# EAGLE library part STECKER_SIEMENS_88-PIN_1703053 (library k-data Mechanik)
Siemens Stecker 88 pol. für BMW Motorsteuergerät (MS41.0)
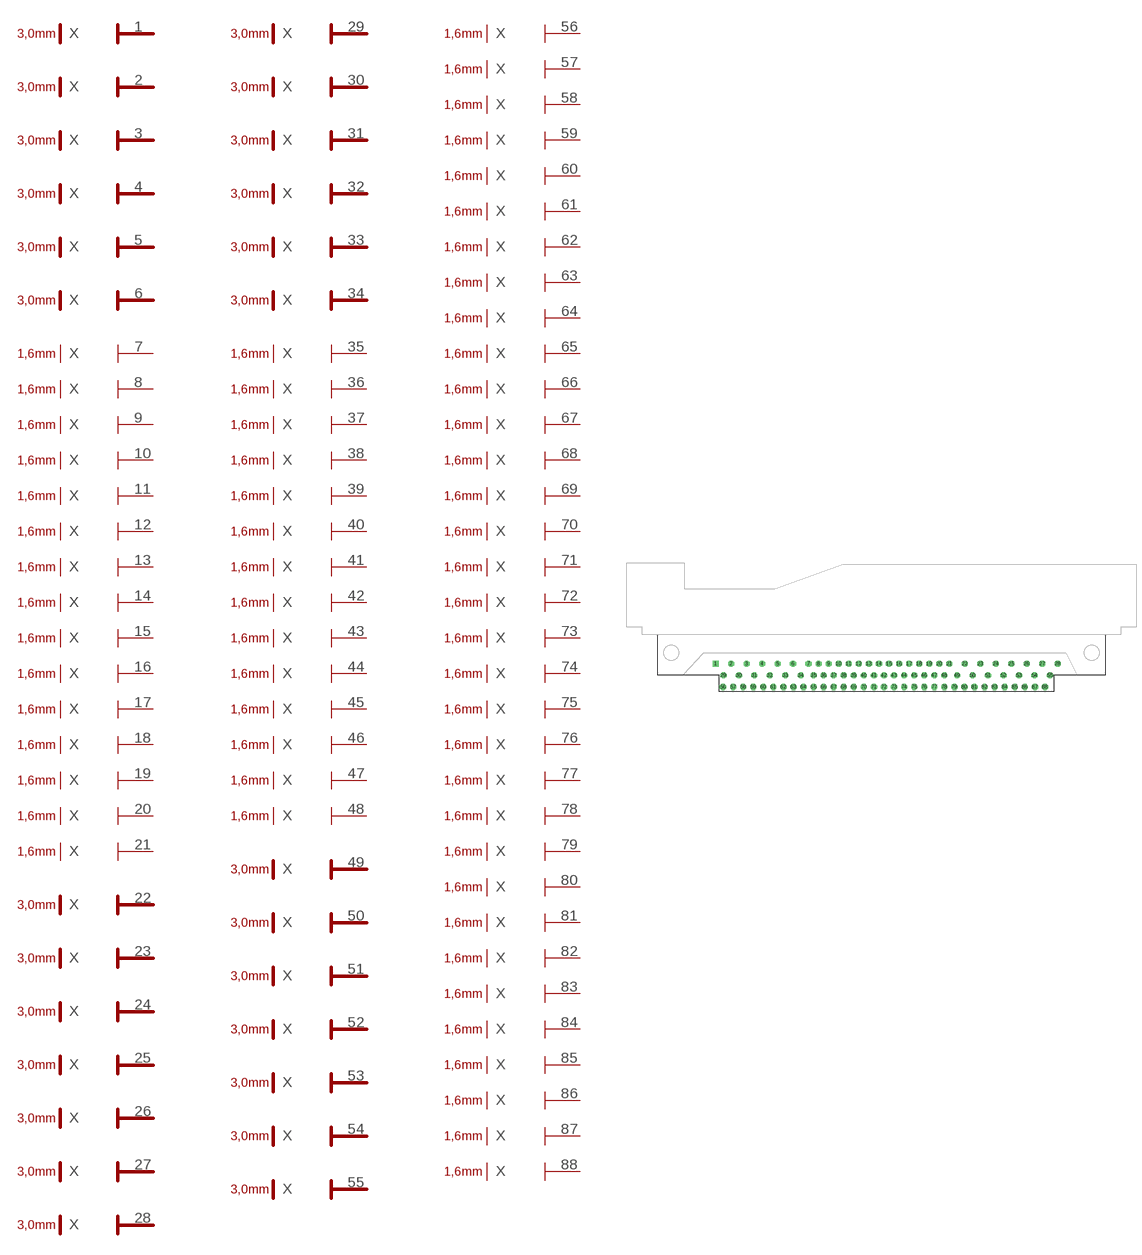
[diagram p0: symbol with the pads of STECKER_SIEMENS_88-PIN_1703053; footprint STECKER_SIEMENS_88-PIN_1703053]

Designator prefix X; gates -1=CONNECTOR-3,0MM -2=CONNECTOR-3,0MM -3=CONNECTOR-3,0MM -4=CONNECTOR-3,0MM -5=CONNECTOR-3,0MM -6=CONNECTOR-3,0MM -7=CONNECTOR-1,6MM -8=CONNECTOR-1,6MM -9=CONNECTOR-1,6MM -10=CONNECTOR-1,6MM -11=CONNECTOR-1,6MM -12=CONNECTOR-1,6MM -13=CONNECTOR-1,6MM -14=CONNECTOR-1,6MM -15=CONNECTOR-1,6MM -16=CONNECTOR-1,6MM -17=CONNECTOR-1,6MM -18=CONNECTOR-1,6MM -19=CONNECTOR-1,6MM -20=CONNECTOR-1,6MM -21=CONNECTOR-1,6MM -22=CONNECTOR-3,0MM -23=CONNECTOR-3,0MM -24=CONNECTOR-3,0MM -25=CONNECTOR-3,0MM -26=CONNECTOR-3,0MM -27=CONNECTOR-3,0MM -28=CONNECTOR-3,0MM -29=CONNECTOR-3,0MM -30=CONNECTOR-3,0MM -31=CONNECTOR-3,0MM -32=CONNECTOR-3,0MM -33=CONNECTOR-3,0MM -34=CONNECTOR-3,0MM -35=CONNECTOR-1,6MM -36=CONNECTOR-1,6MM -37=CONNECTOR-1,6MM -38=CONNECTOR-1,6MM -39=CONNECTOR-1,6MM -40=CONNECTOR-1,6MM -41=CONNECTOR-1,6MM -42=CONNECTOR-1,6MM -43=CONNECTOR-1,6MM -44=CONNECTOR-1,6MM -45=CONNECTOR-1,6MM -46=CONNECTOR-1,6MM -47=CONNECTOR-1,6MM -48=CONNECTOR-1,6MM -49=CONNECTOR-3,0MM -50=CONNECTOR-3,0MM -51=CONNECTOR-3,0MM -52=CONNECTOR-3,0MM -53=CONNECTOR-3,0MM -54=CONNECTOR-3,0MM -55=CONNECTOR-3,0MM -56=CONNECTOR-1,6MM -57=CONNECTOR-1,6MM -58=CONNECTOR-1,6MM -59=CONNECTOR-1,6MM -60=CONNECTOR-1,6MM -61=CONNECTOR-1,6MM -62=CONNECTOR-1,6MM -63=CONNECTOR-1,6MM -64=CONNECTOR-1,6MM -65=CONNECTOR-1,6MM -66=CONNECTOR-1,6MM -67=CONNECTOR-1,6MM -68=CONNECTOR-1,6MM -69=CONNECTOR-1,6MM -70=CONNECTOR-1,6MM -71=CONNECTOR-1,6MM -72=CONNECTOR-1,6MM -73=CONNECTOR-1,6MM -74=CONNECTOR-1,6MM -75=CONNECTOR-1,6MM -76=CONNECTOR-1,6MM -77=CONNECTOR-1,6MM -78=CONNECTOR-1,6MM -79=CONNECTOR-1,6MM -80=CONNECTOR-1,6MM -81=CONNECTOR-1,6MM -82=CONNECTOR-1,6MM -83=CONNECTOR-1,6MM -84=CONNECTOR-1,6MM -85=CONNECTOR-1,6MM -86=CONNECTOR-1,6MM -87=CONNECTOR-1,6MM -88=CONNECTOR-1,6MM

## STECKER_SIEMENS_88-PIN_1703053  [STECKER_SIEMENS_88-PIN_1703053]
1  -1:1
2  -2:1
3  -3:1
4  -4:1
5  -5:1
6  -6:1
7  -7:1
8  -8:1
9  -9:1
10  -10:1
11  -11:1
12  -12:1
13  -13:1
14  -14:1
15  -15:1
16  -16:1
17  -17:1
18  -18:1
19  -19:1
20  -20:1
21  -21:1
22  -22:1
23  -23:1
24  -24:1
25  -25:1
26  -26:1
27  -27:1
28  -28:1
29  -29:1
30  -30:1
31  -31:1
32  -32:1
33  -33:1
34  -34:1
35  -35:1
36  -36:1
37  -37:1
38  -38:1
39  -39:1
40  -40:1
41  -41:1
42  -42:1
43  -43:1
44  -44:1
45  -45:1
46  -46:1
47  -47:1
48  -48:1
49  -49:1
50  -50:1
51  -51:1
52  -52:1
53  -53:1
54  -54:1
55  -55:1
56  -56:1
57  -57:1
58  -58:1
59  -59:1
60  -60:1
61  -61:1
62  -62:1
63  -63:1
64  -64:1
65  -65:1
66  -66:1
67  -67:1
68  -68:1
69  -69:1
70  -70:1
71  -71:1
72  -72:1
73  -73:1
74  -74:1
75  -75:1
76  -76:1
77  -77:1
78  -78:1
79  -79:1
80  -80:1
81  -81:1
82  -82:1
83  -83:1
84  -84:1
85  -85:1
86  -86:1
87  -87:1
88  -88:1

## Footprint STECKER_SIEMENS_88-PIN_1703053 (pad centres in mm)
Siemens Stecker 88 pol. (MS41.0)
drill 1.3 pad 2 square: 1 -53.562,-9.5
drill 1.3 pad 2 octagon: 2 -48.562,-9.5; 3 -43.562,-9.5; 4 -38.562,-9.5; 5 -33.562,-9.5; 6 -28.562,-9.5; 7 -23.562,-9.5; 8 -20.312,-9.5; 9 -17.062,-9.5; 10 -13.812,-9.5; 11 -10.562,-9.5; 12 -7.312,-9.5; 13 -4.062,-9.5; 14 -0.812,-9.5; 15 2.438,-9.5; 16 5.688,-9.5; 17 8.938,-9.5; 18 12.188,-9.5; 19 15.438,-9.5; 20 18.688,-9.5; 21 21.938,-9.5; 22 26.938,-9.5; 23 31.938,-9.5; 24 36.938,-9.5; 25 41.938,-9.5; 26 46.938,-9.5; 27 51.938,-9.5; 28 56.938,-9.5; 29 -51.062,-13.25; 30 -46.062,-13.25; 31 -41.062,-13.25; 32 -36.062,-13.25; 33 -31.062,-13.25; 34 -26.062,-13.25; 35 -21.938,-13.25; 36 -18.688,-13.25; 37 -15.438,-13.25; 38 -12.188,-13.25; 39 -8.938,-13.25; 40 -5.688,-13.25; 41 -2.438,-13.25; 42 0.812,-13.25; 43 4.062,-13.25; 44 7.312,-13.25; 45 10.562,-13.25; 46 13.812,-13.25; 47 17.062,-13.25; 48 20.312,-13.25; 49 24.438,-13.25; 50 29.438,-13.25; 51 34.438,-13.25; 52 39.438,-13.25; 53 44.438,-13.25; 54 49.438,-13.25; 55 54.438,-13.25; 56 -51.188,-17; 57 -47.938,-17; 58 -44.688,-17; 59 -41.438,-17; 60 -38.188,-17; 61 -34.938,-17; 62 -31.688,-17; 63 -28.438,-17; 64 -25.188,-17; 65 -21.938,-17; 66 -18.688,-17; 67 -15.438,-17; 68 -12.188,-17; 69 -8.938,-17; 70 -5.688,-17; 71 -2.438,-17; 72 0.812,-17; 73 4.062,-17; 74 7.312,-17; 75 10.562,-17; 76 13.812,-17; 77 17.062,-17; 78 20.312,-17; 79 23.562,-17; 80 26.812,-17; 81 30.062,-17; 82 33.312,-17; 83 36.562,-17; 84 39.812,-17; 85 43.062,-17; 86 46.312,-17; 87 49.562,-17; 88 52.812,-17